# EAGLE library part SN74LVC07A_SOIC (library jobygnss)
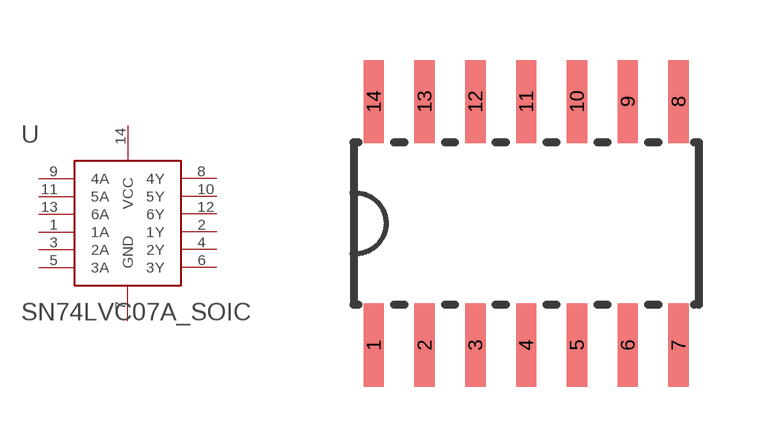
[diagram p4: symbol with the pads of SN74LVC07A_SOIC; footprint SN74LVC07A_SOIC]

Designator prefix -

## SN74LVC07A_SOIC  [SN74LVC07A_SOIC]
1  1A
2  1Y
3  2A
4  2Y
5  3A
6  3Y
7  GND
8  4Y
9  4A
10  5Y
11  5A
12  6Y
13  6A
14  VCC

## Footprint SN74LVC07A_SOIC (pad centres in mm)
smd 0.508 x 2.083: 1 -3.81,-3.048; 2 -2.54,-3.048; 3 -1.27,-3.048; 4 0,-3.048; 5 1.27,-3.048; 6 2.54,-3.048; 7 3.81,-3.048; 8 3.81,3.048; 9 2.54,3.048; 10 1.27,3.048; 11 0,3.048; 12 -1.27,3.048; 13 -2.54,3.048; 14 -3.81,3.048